# EAGLE library part RELAIS_2_WECHSLER (library n39)
2-fach Wechsel-Relais Packages: M4 5V Spulenspannung (Reichelt M4 05H) Autor: Tux
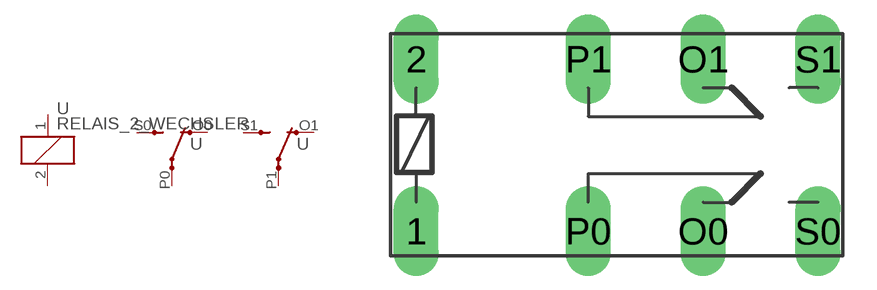
[diagram p6: symbol with the pads of RELAIS_DIL_M4; footprint RELAIS_DIL_M4]

Designator prefix -; gates SP=SPULE W1=WECHSLER W2=WECHSLER

## RELAIS_2_WECHSLER  [RELAIS_DIL_M4]
1  SP:1  pas
2  SP:2  pas
O0  W1:O  pas
O1  W2:O  pas
P0  W1:P  pas
P1  W2:P  pas
S0  W1:S  pas
S1  W2:S  pas

## Footprint RELAIS_DIL_M4 (pad centres in mm)
DIL Miniaturrelais max. Schaltleistung: 30W / 125VA max. Schaltspannung: 220VDC / 250VAC standardmäßig waschfest: RT III (IP67) Spulenspannung: 3V bis 48VDC Ansprechleistung ca.: 110mW Autor: Tux Reichelt: M4 05H
drill 1.321 long: 1 -7.62,-2.54; 2 -7.62,5.08; O0 5.08,-2.54; O1 5.08,5.08; P0 0,-2.54; P1 0,5.08; S0 10.16,-2.54; S1 10.16,5.08